# EAGLE library part WGM110_DEV (library WGM110)
WGM110 - Wizard Gecko WGM110 Wi-Fi® Module Technical Specifications: 802.11: b/g/n TX Power: +16 dBm RX Sensitivity: -98 dBm ARM® Cortex-M3 Arrow: WGM110A1MV1 <https://www.arrow.com/en/products/wgm110a1mv1/silicon-labs> Digikey: 336-3597-ND <https://www.digikey.com/product-search/en?keywords=336-3597-ND> Mouser: 634-WGM110A1MV1 <http://www.mouser.com/search/ProductDetail.aspx?R=0virtualkey0virtualkeyWGM110A1MV1>
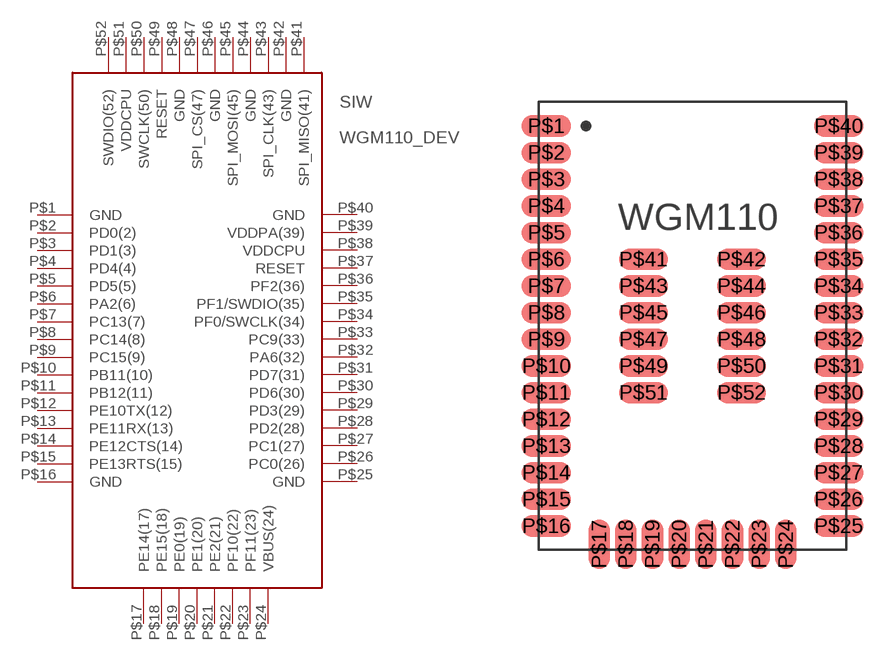
[diagram p0: symbol with the pads of WGM110_PAC; footprint WGM110_PAC]

Designator prefix SIW

## WGM110_DEV  [WGM110_PAC]
P$1  GND  pwr
P$2  PD0(2)
P$3  PD1(3)
P$4  PD4(4)
P$5  PD5(5)
P$6  PA2(6)
P$7  PC13(7)
P$8  PC14(8)
P$9  PC15(9)
P$10  PB11(10)
P$11  PB12(11)
P$12  PE10TX(12)
P$13  PE11RX(13)
P$14  PE12CTS(14)
P$15  PE13RTS(15)
P$16  GND  pwr
P$17  PE14(17)
P$18  PE15(18)
P$19  PE0(19)
P$20  PE1(20)
P$21  PE2(21)
P$22  PF10(22)
P$23  PF11(23)
P$24  VBUS(24)  pwr
P$25  GND  pwr
P$26  PC0(26)
P$27  PC1(27)
P$28  PD2(28)
P$29  PD3(29)
P$30  PD6(30)
P$31  PD7(31)
P$32  PA6(32)
P$33  PC9(33)
P$34  PF0/SWCLK(34)
P$35  PF1/SWDIO(35)
P$36  PF2(36)
P$37  RESET  in
P$38  VDDCPU  pwr
P$39  VDDPA(39)  pwr
P$40  GND  pwr
P$41  SPI_MISO(41)
P$42  GND  pwr
P$43  SPI_CLK(43)
P$44  GND  pwr
P$45  SPI_MOSI(45)
P$46  GND  pwr
P$47  SPI_CS(47)
P$48  GND  pwr
P$49  RESET  in
P$50  SWCLK(50)
P$51  VDDCPU  pwr
P$52  SWDIO(52)

## Footprint WGM110_PAC (pad centres in mm)
smd 2.3 x 1: P$1 -6.85,9.375; P$2 -6.85,8.125; P$3 -6.85,6.875; P$4 -6.85,5.625; P$5 -6.85,4.375; P$6 -6.85,3.125; P$7 -6.85,1.875; P$8 -6.85,0.625; P$9 -6.85,-0.625; P$10 -6.85,-1.875; P$11 -6.85,-3.125; P$12 -6.85,-4.375; P$13 -6.85,-5.625; P$14 -6.85,-6.875; P$15 -6.85,-8.125; P$16 -6.85,-9.375; P$25 6.85,-9.375; P$26 6.85,-8.125; P$27 6.85,-6.875; P$28 6.85,-5.625; P$29 6.85,-4.375; P$30 6.85,-3.125; P$31 6.85,-1.875; P$32 6.85,-0.625; P$33 6.85,0.625; P$34 6.85,1.875; P$35 6.85,3.125; P$36 6.85,4.375; P$37 6.85,5.625; P$38 6.85,6.875; P$39 6.85,8.125; P$40 6.85,9.375; P$41 -2.3,3.125; P$42 2.3,3.125; P$43 -2.3,1.875; P$44 2.3,1.875; P$45 -2.3,0.625; P$46 2.3,0.625; P$47 -2.3,-0.625; P$48 2.3,-0.625; P$49 -2.3,-1.875; P$50 2.3,-1.875; P$51 -2.3,-3.125; P$52 2.3,-3.125
smd 1 x 2.3: P$17 -4.375,-10.225; P$18 -3.125,-10.225; P$19 -1.875,-10.225; P$20 -0.625,-10.225; P$21 0.625,-10.225; P$22 1.875,-10.225; P$23 3.125,-10.225; P$24 4.375,-10.225